# Altium footprint library PcbLib3.PcbLib: 23 footprints (part 2 of 2)
Each footprint in its own frame and in the unit in brackets; x right, y up, seen from the top. Pads: shape width x height; smd on the part's side, far side on the other; paste and mask are expansions set on the pad; w line width, h text height; cw(c..) or ccw(c..) is an arc to the next point about the centre after c.
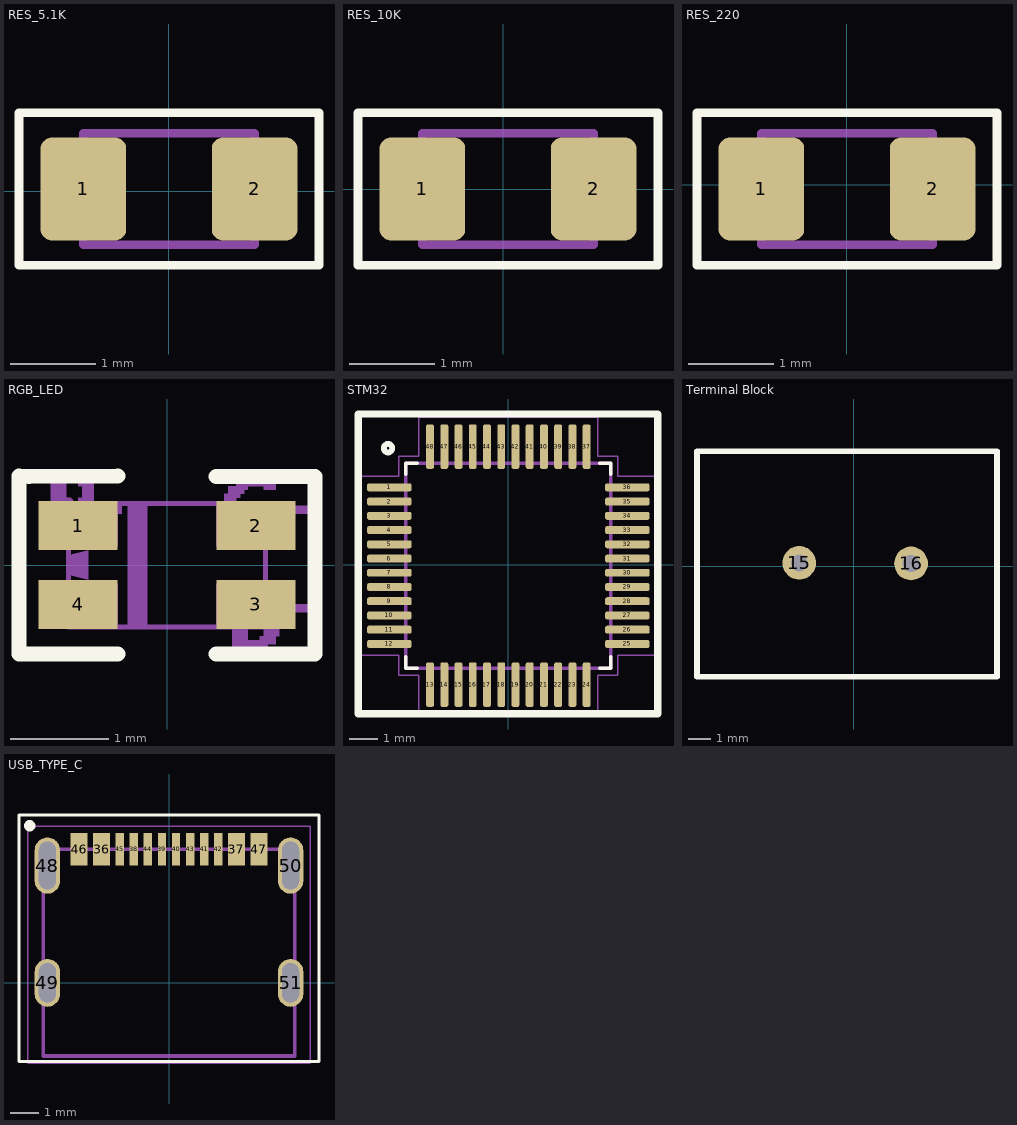
[diagram p1: the footprints below, top view; thin cyan lines are the x and y axes]

## RES_5.1K [mm]
pads (2):
  rrect25% 1x1.2 smd: 1(-0.997,0.028) 2(1.003,0.028)
Top Overlay:
  lines w0.1: -1.75,-0.861 -1.75,0.917 1.755,0.917 1.755,-0.861 -1.75,-0.861
Top Assembly:
  lines w0.1: -0.997,-0.622 -0.997,0.678 1.003,0.678 1.003,-0.622 -0.997,-0.622
  text ".Designator" at -1.547,-0.122 h0.7
Top Courtyard:
  lines w0.05: -1.747,-0.872 -1.747,0.928 1.753,0.928 1.753,-0.872 -1.747,-0.872
3D body: height 0.5, standoff 0, extent -0.597,-0.622 0.603,0.678
3D body: height 0.5, standoff 0, extent -0.997,-0.622 -0.597,0.678
3D body: height 0.5, standoff 0, extent 0.603,-0.622 1.003,0.678

## RES_10K [mm]
pads (2):
  rrect25% 1x1.2 smd: 1(-0.947,0.003) 2(1.053,0.003)
Top Overlay:
  lines w0.1: -1.7,-0.886 1.805,-0.886 1.805,0.892 -1.7,0.892 -1.7,-0.886
Top Assembly:
  lines w0.1: -0.947,-0.647 1.053,-0.647 1.053,0.653 -0.947,0.653 -0.947,-0.647
  text ".Designator" at -1.497,-0.147 h0.7
Top Courtyard:
  lines w0.05: -1.697,-0.897 1.803,-0.897 1.803,0.903 -1.697,0.903 -1.697,-0.897
3D body: height 0.5, standoff 0, extent 0.653,-0.647 1.053,0.653
3D body: height 0.5, standoff 0, extent -0.947,-0.647 -0.547,0.653
3D body: height 0.5, standoff 0, extent -0.547,-0.647 0.653,0.653

## RES_220 [mm]
pads (2):
  rrect25% 1x1.2 smd: 1(-0.997,-0.047) 2(1.003,-0.047)
Top Overlay:
  lines w0.1: -1.75,-0.936 -1.75,0.842 1.755,0.842 1.755,-0.936 -1.75,-0.936
Top Assembly:
  lines w0.1: -0.997,-0.697 -0.997,0.603 1.003,0.603 1.003,-0.697 -0.997,-0.697
  text ".Designator" at -1.547,-0.197 h0.7
Top Courtyard:
  lines w0.05: -1.747,-0.947 -1.747,0.853 1.753,0.853 1.753,-0.947 -1.747,-0.947
3D body: height 0.5, standoff 0, extent -0.597,-0.697 0.603,0.603
3D body: height 0.5, standoff 0, extent -0.997,-0.697 -0.597,0.603
3D body: height 0.5, standoff 0, extent 0.603,-0.697 1.003,0.603

## RGB_LED [mil]
pads (4):
  rect 31.5x19.7 smd paste+0 mask+2: 1(-35.5,15.8) 2(35.4,15.8) 3(35.4,-15.7) 4(-35.5,-15.7)
Top Overlay:
  lines w6: -19.7,-35.4 -55.2,-35.4 -59.1,-35.4 -59.1,-31.5 -59.1,31.5 -59.1,35.5 -55.2,35.4 -19.7,35.5 ; 19.6,-35.4 59,-35.4 59,35.4 19.6,35.4
Mechanical 2:
  drawing of 104 lines, arcs and shapes, not listed
Mechanical 6:
  lines w2: -39.4,-24.6 39.3,-24.6 39.3,24.6 -39.4,24.6 -39.4,-24.6
Mechanical 8:
  region: -37.1,24.6 -37.4,23.4 -38.4,22.5 -39.8,22.3 -41,22.9 -41.7,24 -41.7,25.3 -41,26.4 -39.8,27 -38.4,26.8 -37.4,25.9
Top Assembly:
  region: 19.6,-24.6 19.6,-7.4 39.3,-7.4 39.3,-24.6
  region: 19.6,7.5 19.6,24.6 39.3,24.6 39.3,7.5
  region: -39.4,-24.6 -39.4,-7.4 -19.7,-7.4 -19.7,-24.6
  region: -39.4,7.5 -39.4,24.6 -19.7,24.6 -19.7,7.5
  text ".Designator" at -40,-6.31 h19.68
3D body "stepFile.stp": height 42.95, standoff -0.39, extent -39.37,-24.61 39.37,24.61

## STM32 [mm] "LQFP, 48-Leads, Body 11.50x11.50mm, Pitch 0.50mm, IPC Medium Density"
height 1.6
pads (48):
  rrect50% 1.56x0.28 smd: 1(-4.18,2.725) 2(-4.18,2.225) 3(-4.18,1.725) 4(-4.18,1.225) 5(-4.18,0.725) 6(-4.18,0.225) 7(-4.18,-0.275) 8(-4.18,-0.775) 9(-4.18,-1.275) 10(-4.18,-1.775) 11(-4.18,-2.275) 12(-4.18,-2.775) 25(4.18,-2.775) 26(4.18,-2.275) 27(4.18,-1.775) 28(4.18,-1.275) 29(4.18,-0.775) 30(4.18,-0.275) 31(4.18,0.225) 32(4.18,0.725) 33(4.18,1.225) 34(4.18,1.725) 35(4.18,2.225) 36(4.18,2.725)
  rrect50% 0.28x1.56 smd: 13(-2.75,-4.205) 14(-2.25,-4.205) 15(-1.75,-4.205) 16(-1.25,-4.205) 17(-0.75,-4.205) 18(-0.25,-4.205) 19(0.25,-4.205) 20(0.75,-4.205) 21(1.25,-4.205) 22(1.75,-4.205) 23(2.25,-4.205) 24(2.75,-4.205) 37(2.75,4.155) 38(2.25,4.155) 39(1.75,4.155) 40(1.25,4.155) 41(0.75,4.155) 42(0.25,4.155) 43(-0.25,4.155) 44(-0.75,4.155) 45(-1.25,4.155) 46(-1.75,4.155) 47(-2.25,4.155) 48(-2.75,4.155)
Top Overlay:
  circle w0.2: c-4.225,4.1 r0.15
  lines w0.127: -3.6,-3.235 -3.6,-3.625 -3.21,-3.625 ; -3.6,3.185 -3.6,3.575 -3.21,3.575 ; 3.21,-3.625 3.6,-3.625 3.6,-3.235 ; 3.21,3.575 3.6,3.575 3.6,3.185
  lines w0.254: -5.275,-5.225 -5.275,5.3 5.25,5.3 5.25,-5.225 -5.275,-5.225
Top Assembly:
  text ".Designator" at -1.216,-0.135 h0.5
Top 3D Body:
  lines w0.127: -3.6,-3.625 3.6,-3.625 3.6,3.575 -3.6,3.575 -3.6,-3.625
Top Courtyard:
  lines w0.05: -5.21,-3.165 -3.85,-3.165 -3.85,-3.875 -3.14,-3.875 -3.14,-5.235 3.14,-5.235 3.14,-3.875 3.85,-3.875 3.85,-3.165 5.21,-3.165 5.21,3.115 3.85,3.115 3.85,3.825 3.14,3.825 3.14,5.185 -3.14,5.185 -3.14,3.825 -3.85,3.825 -3.85,3.115 -5.21,3.115 -5.21,-3.165
3D body "step_temp.STEP": height 1.6, standoff 0, extent -4.5,-4.525 4.5,4.475

## Terminal Block [mil]
pads (2):
  round 60 hole 30: 15(-97,6) 16(102,5)
Top Overlay:
  lines w10: -279,-197 -279,205 -267,205 255,205 255,-197 -279,-197
Top Assembly:
  text ".Designator" at -235,-10.75 h102.36
3D body "282837-2--3DModel-STEP-269445.STEP": height 393.7, standoff -137.8, extent -222.62,-156.42 201,166.42

## USB_TYPE_C [mm]
pads (16):
  rect 0.6x1.14 smd mask+0.05: 36(-2.4,4.75) 37(2.4,4.75) 46(-3.2,4.75) 47(3.2,4.75)
  rect 0.3x1.14 smd mask+0.05: 38(-1.25,4.75) 39(-0.25,4.75) 40(0.25,4.75) 41(1.25,4.75) 42(1.75,4.75) 43(0.75,4.75) 44(-0.75,4.75) 45(-1.75,4.75)
  oval 0.9x2 hole 0.6 slot 1.7 at 90 deg: 48(-4.325,4.17) 50(4.325,4.17)
  oval 0.9x1.7 hole 0.6 slot 1.4 at 90 deg: 49(-4.325,0) 51(4.325,0)
Top Overlay:
  circle w0.2: c-4.953,5.588 r0.1
  lines w0.1: -5.334,-2.794 5.334,-2.794 5.334,-0.916 5.334,5.969 -5.334,5.969 -5.334,-0.916 -5.334,-2.794
Top Assembly:
  text ".Designator" at -7.747,0.889 h1.52
Top 3D Body:
  lines w0.127: -4.47,-2.6 -4.47,4.75 4.47,4.75 4.47,-2.6 -4.47,-2.6
Top Courtyard:
  lines w0.05: -5.025,-2.85 5.025,-2.85 5.025,5.57 -5.025,5.57 -5.025,-2.85
3D body "step_temp.STEP": height 3.31, standoff -0.99, extent -4.47,-2.6 4.47,5.305